# Altium footprint library rev02.PcbLib: 52 footprints (part 2 of 4)
Each footprint in its own frame and in the unit in brackets; x right, y up, seen from the top. Pads: shape width x height; smd on the part's side, far side on the other; paste and mask are expansions set on the pad; w line width, h text height; cw(c..) or ccw(c..) is an arc to the next point about the centre after c.
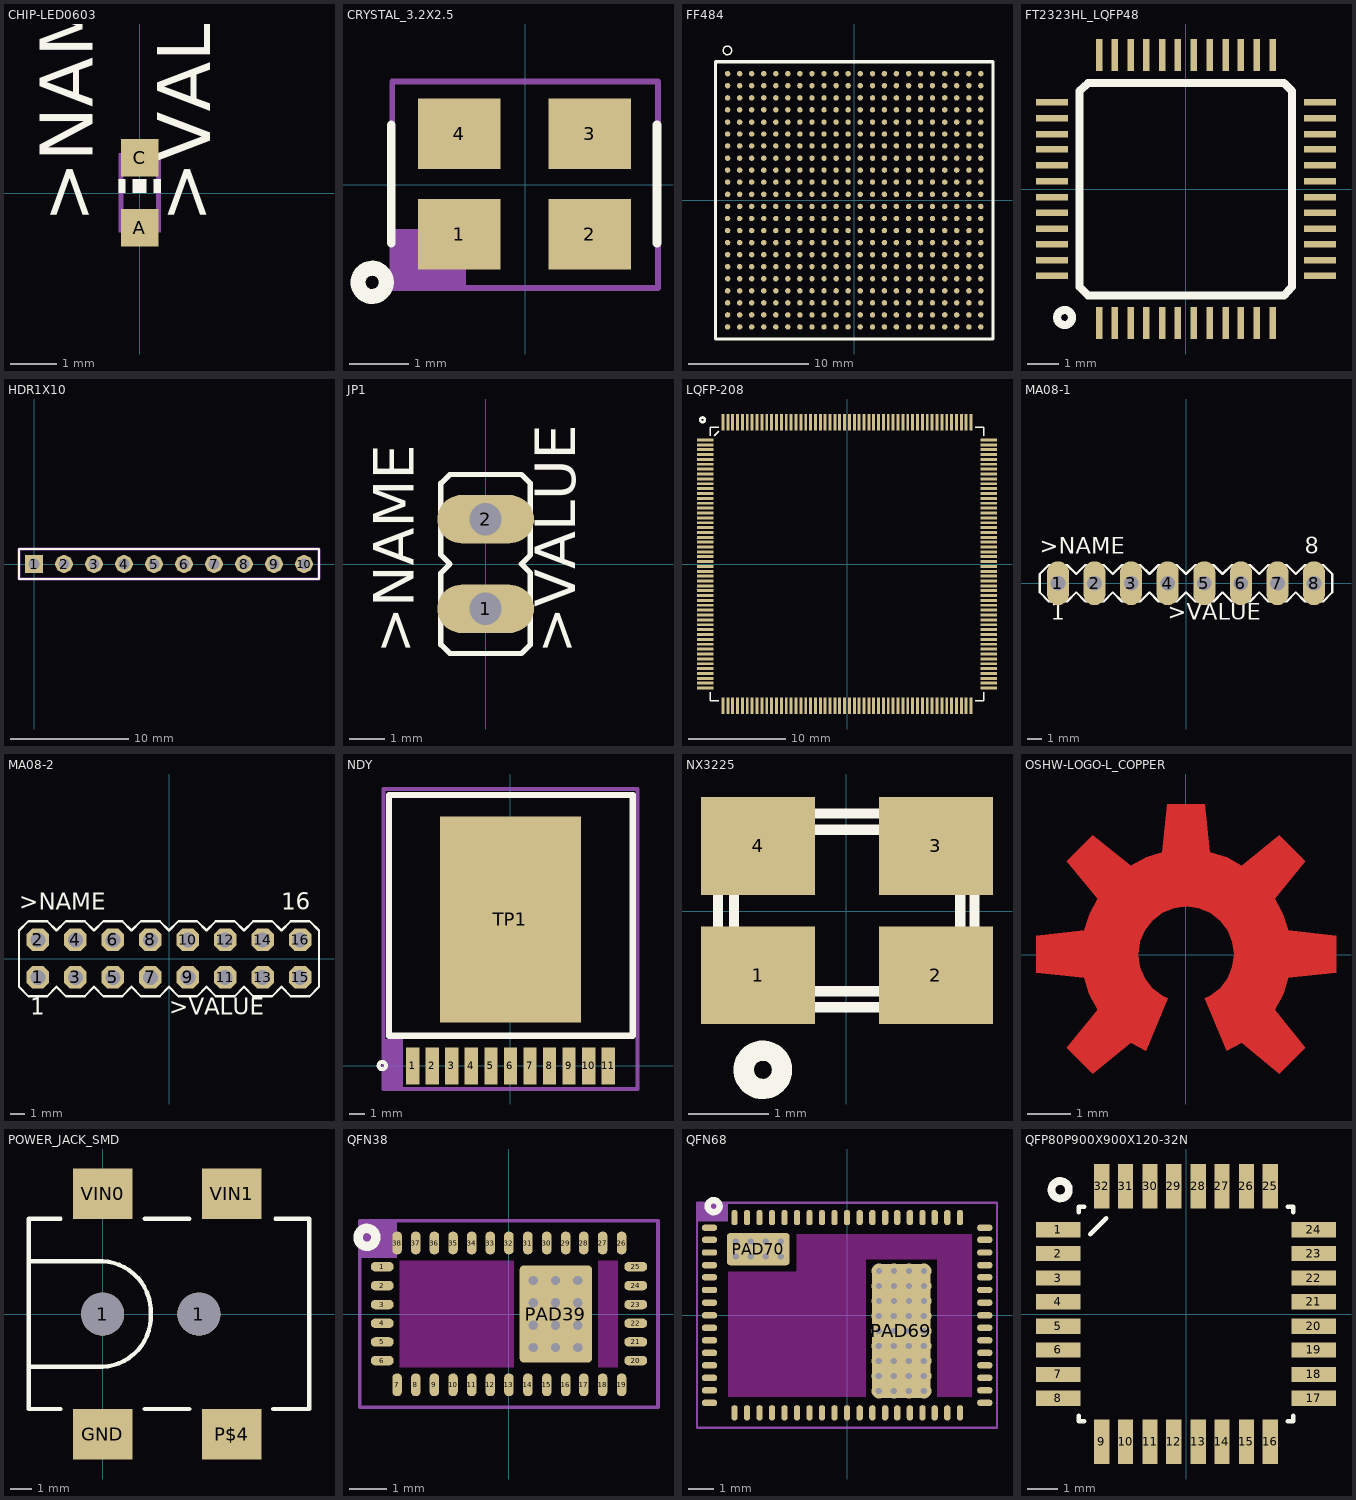
[diagram p1: the footprints below, top view; thin cyan lines are the x and y axes]

## CHIP-LED0603 [mil] "CHIP-LED0603"
pads (2):
  rect 32x32 smd: A(0,-29.53) C(0,30)
Top Overlay:
  rectangle: -17.72,0 -11.81,12
  rectangle: 12,0 18,12
  rectangle: -5.91,0 6,12
  text ">NAME" at -25,-25 h77.5
  text ">VALUE" at 75,-25 h77.5
Mechanical 16:
  rectangle: -17.72,18 18,34
  rectangle: -17.72,-33.46 18,-17.72
  lines w4: -15.75,-17.72 -15.75,18 ; 16,-17.72 16,18

## CRYSTAL_3.2X2.5 [mil] "CRYSTAL_3.2X2.5"
pads (4):
  rect 55x47 smd: 1(-44,-33) 2(43,-33) 3(43,34) 4(-44,34)
Top Overlay:
  circle w10: c-102,-65 r9.43
  lines w5.91: -89.28,-38.91 -89.28,40 ; 88,-38.91 88,40
Mechanical 29:
  rectangle: -88.58,-68.9 -39.37,-29.53
  lines w3.94: -88.58,-68.9 88.58,-68.9 88.58,68.9 -88.58,68.9 -88.58,-68.9
  text ".Designator" at -68.9,0 h39.37

## FF484 [mm] "FF484"
pads (484):
  rrect100% 0.45x0.45 smd: A1(-10.5,10.516) A2(-9.5,10.516) A3(-8.5,10.516) A4(-7.5,10.516) A5(-6.5,10.516) A6(-5.5,10.516) A7(-4.5,10.516) A8(-3.5,10.516) A9(-2.5,10.516) A10(-1.5,10.516) A11(-0.5,10.516) A12(0.508,10.516) A13(1.524,10.516) A14(2.515,10.516) A15(3.505,10.516) A16(4.521,10.516) A17(5.512,10.516) A18(6.502,10.516) A19(7.518,10.516) A20(8.509,10.516) A21(9.525,10.516) A22(10.516,10.516) AA1(-10.5,-9.5) AA2(-9.5,-9.5) AA3(-8.5,-9.5) AA4(-7.5,-9.5) AA5(-6.5,-9.5) AA6(-5.5,-9.5) AA7(-4.5,-9.5) AA8(-3.5,-9.5) AA9(-2.5,-9.5) AA10(-1.5,-9.5) AA11(-0.5,-9.5) AA12(0.508,-9.5) AA13(1.524,-9.5) AA14(2.515,-9.5) AA15(3.505,-9.5) AA16(4.521,-9.5) AA17(5.512,-9.5) AA18(6.502,-9.5) AA19(7.518,-9.5) AA20(8.509,-9.5) AA21(9.525,-9.5) AA22(10.516,-9.5) AB1(-10.5,-10.5) AB2(-9.5,-10.5) AB3(-8.5,-10.5) AB4(-7.5,-10.5) AB5(-6.5,-10.5) AB6(-5.5,-10.5) AB7(-4.5,-10.5) AB8(-3.5,-10.5) AB9(-2.5,-10.5) AB10(-1.5,-10.5) AB11(-0.5,-10.5) AB12(0.508,-10.5) AB13(1.524,-10.5) AB14(2.515,-10.5) AB15(3.505,-10.5) AB16(4.521,-10.5) AB17(5.512,-10.5) AB18(6.502,-10.5) AB19(7.518,-10.5) AB20(8.509,-10.5) AB21(9.525,-10.5) AB22(10.516,-10.5) B1(-10.5,9.525) B2(-9.5,9.525) B3(-8.5,9.525) B4(-7.5,9.525) B5(-6.5,9.525) B6(-5.5,9.525) B7(-4.5,9.525) B8(-3.5,9.525) B9(-2.5,9.525) B10(-1.5,9.525) B11(-0.5,9.525) B12(0.508,9.525) B13(1.524,9.525) B14(2.515,9.525) B15(3.505,9.525) B16(4.521,9.525) B17(5.512,9.525) B18(6.502,9.525) B19(7.518,9.525) B20(8.509,9.525) B21(9.525,9.525) B22(10.516,9.525) C1(-10.5,8.509) C2(-9.5,8.509) C3(-8.5,8.509) C4(-7.5,8.509) C5(-6.5,8.509) C6(-5.5,8.509) C7(-4.5,8.509) C8(-3.5,8.509) C9(-2.5,8.509) C10(-1.5,8.509) C11(-0.5,8.509) C12(0.508,8.509) C13(1.524,8.509) C14(2.515,8.509) C15(3.505,8.509) C16(4.521,8.509) C17(5.512,8.509) C18(6.502,8.509) C19(7.518,8.509) C20(8.509,8.509) C21(9.525,8.509) C22(10.516,8.509) D1(-10.5,7.518) D2(-9.5,7.518) D3(-8.5,7.518) D4(-7.5,7.518) D5(-6.5,7.518) D6(-5.5,7.518) D7(-4.5,7.518) D8(-3.5,7.518) D9(-2.5,7.518) D10(-1.5,7.518) D11(-0.5,7.518) D12(0.508,7.518) D13(1.524,7.518) D14(2.515,7.518) D15(3.505,7.518) D16(4.521,7.518) D17(5.512,7.518) D18(6.502,7.518) D19(7.518,7.518) D20(8.509,7.518) D21(9.525,7.518) D22(10.516,7.518) E1(-10.5,6.502) E2(-9.5,6.502) E3(-8.5,6.502) E4(-7.5,6.502) E5(-6.5,6.502) E6(-5.5,6.502) E7(-4.5,6.502) E8(-3.5,6.502) E9(-2.5,6.502) E10(-1.5,6.502) E11(-0.5,6.502) E12(0.508,6.502) E13(1.524,6.502) E14(2.515,6.502) E15(3.505,6.502) E16(4.521,6.502) E17(5.512,6.502) E18(6.502,6.502) E19(7.518,6.502) E20(8.509,6.502) E21(9.525,6.502) E22(10.516,6.502) F1(-10.5,5.512) F2(-9.5,5.512) F3(-8.5,5.512) F4(-7.5,5.512) F5(-6.5,5.512) F6(-5.5,5.512) F7(-4.5,5.512) F8(-3.5,5.512) F9(-2.5,5.512) F10(-1.5,5.512) F11(-0.5,5.512) F12(0.508,5.512) F13(1.524,5.512) F14(2.515,5.512) F15(3.505,5.512) F16(4.521,5.512) F17(5.512,5.512) F18(6.502,5.512) F19(7.518,5.512) F20(8.509,5.512) F21(9.525,5.512) F22(10.516,5.512) G1(-10.5,4.521) G2(-9.5,4.521) G3(-8.5,4.521) G4(-7.5,4.521) G5(-6.5,4.521) G6(-5.5,4.521) G7(-4.5,4.521) G8(-3.5,4.521) G9(-2.5,4.521) G10(-1.5,4.521) G11(-0.5,4.521) G12(0.508,4.521) G13(1.524,4.521) G14(2.515,4.521) G15(3.505,4.521) G16(4.521,4.521) G17(5.512,4.521) G18(6.502,4.521) G19(7.518,4.521) G20(8.509,4.521) G21(9.525,4.521) G22(10.516,4.521) H1(-10.5,3.505) H2(-9.5,3.505) H3(-8.5,3.505) H4(-7.5,3.505) H5(-6.5,3.505) H6(-5.5,3.505) H7(-4.5,3.505) H8(-3.5,3.505) H9(-2.5,3.505) H10(-1.5,3.505) H11(-0.5,3.505) H12(0.508,3.505) H13(1.524,3.505) H14(2.515,3.505) H15(3.505,3.505) H16(4.521,3.505) H17(5.512,3.505) H18(6.502,3.505) H19(7.518,3.505) H20(8.509,3.505) H21(9.525,3.505) H22(10.516,3.505) J1(-10.5,2.515) J2(-9.5,2.515) J3(-8.5,2.515) J4(-7.5,2.515) J5(-6.5,2.515) J6(-5.5,2.515) J7(-4.5,2.515) J8(-3.5,2.515) J9(-2.5,2.515) J10(-1.5,2.515) J11(-0.5,2.515) J12(0.508,2.515) J13(1.524,2.515) J14(2.515,2.515) J15(3.505,2.515) J16(4.521,2.515) J17(5.512,2.515) J18(6.502,2.515) J19(7.518,2.515) J20(8.509,2.515) J21(9.525,2.515) J22(10.516,2.515) K1(-10.5,1.524) K2(-9.5,1.524) K3(-8.5,1.524) K4(-7.5,1.524) K5(-6.5,1.524) K6(-5.5,1.524) K7(-4.5,1.524) K8(-3.5,1.524) K9(-2.5,1.524) K10(-1.5,1.524) K11(-0.5,1.524) K12(0.508,1.524) K13(1.524,1.524) K14(2.515,1.524) K15(3.505,1.524) K16(4.521,1.524) K17(5.512,1.524) K18(6.502,1.524) K19(7.518,1.524) K20(8.509,1.524) K21(9.525,1.524) K22(10.516,1.524) L1(-10.5,0.508) L2(-9.5,0.508) L3(-8.5,0.508) L4(-7.5,0.508) L5(-6.5,0.508) L6(-5.5,0.508) L7(-4.5,0.508) L8(-3.5,0.508) L9(-2.5,0.508) L10(-1.5,0.508) L11(-0.5,0.508) L12(0.508,0.508) L13(1.524,0.508) L14(2.515,0.508) L15(3.505,0.508) L16(4.521,0.508) L17(5.512,0.508) L18(6.502,0.508) L19(7.518,0.508) L20(8.509,0.508) L21(9.525,0.508) L22(10.516,0.508) M1(-10.5,-0.5) M2(-9.5,-0.5) M3(-8.5,-0.5) M4(-7.5,-0.5) M5(-6.5,-0.5) M6(-5.5,-0.5) M7(-4.5,-0.5) M8(-3.5,-0.5) M9(-2.5,-0.5) M10(-1.5,-0.5) M11(-0.5,-0.5) M12(0.508,-0.5) M13(1.524,-0.5) M14(2.515,-0.5) M15(3.505,-0.5) M16(4.521,-0.5) M17(5.512,-0.5) M18(6.502,-0.5) M19(7.518,-0.5) M20(8.509,-0.5) M21(9.525,-0.5) M22(10.516,-0.5) N1(-10.5,-1.5) N2(-9.5,-1.5) N3(-8.5,-1.5) N4(-7.5,-1.5) N5(-6.5,-1.5) N6(-5.5,-1.5) N7(-4.5,-1.5) N8(-3.5,-1.5) N9(-2.5,-1.5) N10(-1.5,-1.5) N11(-0.5,-1.5) N12(0.508,-1.5) N13(1.524,-1.5) N14(2.515,-1.5) N15(3.505,-1.5) N16(4.521,-1.5) N17(5.512,-1.5) N18(6.502,-1.5) N19(7.518,-1.5) N20(8.509,-1.5) N21(9.525,-1.5) N22(10.516,-1.5) P1(-10.5,-2.5) P2(-9.5,-2.5) P3(-8.5,-2.5) P4(-7.5,-2.5) P5(-6.5,-2.5) P6(-5.5,-2.5) P7(-4.5,-2.5) P8(-3.5,-2.5) P9(-2.5,-2.5) P10(-1.5,-2.5) P11(-0.5,-2.5) P12(0.508,-2.5) P13(1.524,-2.5) P14(2.515,-2.5) P15(3.505,-2.5) P16(4.521,-2.5) P17(5.512,-2.5) P18(6.502,-2.5) P19(7.518,-2.5) P20(8.509,-2.5) P21(9.525,-2.5) P22(10.516,-2.5) R1(-10.5,-3.5) R2(-9.5,-3.5) R3(-8.5,-3.5) R4(-7.5,-3.5) R5(-6.5,-3.5) R6(-5.5,-3.5) R7(-4.5,-3.5) R8(-3.5,-3.5) R9(-2.5,-3.5) R10(-1.5,-3.5) R11(-0.5,-3.5) R12(0.508,-3.5) R13(1.524,-3.5) R14(2.515,-3.5) R15(3.505,-3.5) R16(4.521,-3.5) R17(5.512,-3.5) R18(6.502,-3.5) R19(7.518,-3.5) R20(8.509,-3.5) R21(9.525,-3.5) R22(10.516,-3.5) T1(-10.5,-4.5) T2(-9.5,-4.5) T3(-8.5,-4.5) T4(-7.5,-4.5) T5(-6.5,-4.5) T6(-5.5,-4.5) T7(-4.5,-4.5) T8(-3.5,-4.5) T9(-2.5,-4.5) T10(-1.5,-4.5) T11(-0.5,-4.5) T12(0.508,-4.5) T13(1.524,-4.5) T14(2.515,-4.5) T15(3.505,-4.5) T16(4.521,-4.5) T17(5.512,-4.5) T18(6.502,-4.5) T19(7.518,-4.5) T20(8.509,-4.5) T21(9.525,-4.5) T22(10.516,-4.5) U1(-10.5,-5.5) U2(-9.5,-5.5) U3(-8.5,-5.5) U4(-7.5,-5.5) U5(-6.5,-5.5) U6(-5.5,-5.5) U7(-4.5,-5.5) U8(-3.5,-5.5) U9(-2.5,-5.5) U10(-1.5,-5.5) U11(-0.5,-5.5) U12(0.508,-5.5) U13(1.524,-5.5) U14(2.515,-5.5) U15(3.505,-5.5) U16(4.521,-5.5) U17(5.512,-5.5) U18(6.502,-5.5) U19(7.518,-5.5) U20(8.509,-5.5) U21(9.525,-5.5) U22(10.516,-5.5) V1(-10.5,-6.5) V2(-9.5,-6.5) V3(-8.5,-6.5) V4(-7.5,-6.5) V5(-6.5,-6.5) V6(-5.5,-6.5) V7(-4.5,-6.5) V8(-3.5,-6.5) V9(-2.5,-6.5) V10(-1.5,-6.5) V11(-0.5,-6.5) V12(0.508,-6.5) V13(1.524,-6.5) V14(2.515,-6.5) V15(3.505,-6.5) V16(4.521,-6.5) V17(5.512,-6.5) V18(6.502,-6.5) V19(7.518,-6.5) V20(8.509,-6.5) V21(9.525,-6.5) V22(10.516,-6.5) W1(-10.5,-7.5) W2(-9.5,-7.5) W3(-8.5,-7.5) W4(-7.5,-7.5) W5(-6.5,-7.5) W6(-5.5,-7.5) W7(-4.5,-7.5) W8(-3.5,-7.5) W9(-2.5,-7.5) W10(-1.5,-7.5) W11(-0.5,-7.5) W12(0.508,-7.5) W13(1.524,-7.5) W14(2.515,-7.5) W15(3.505,-7.5) W16(4.521,-7.5) W17(5.512,-7.5) W18(6.502,-7.5) W19(7.518,-7.5) W20(8.509,-7.5) W21(9.525,-7.5) W22(10.516,-7.5) Y1(-10.5,-8.5) Y2(-9.5,-8.5) Y3(-8.5,-8.5) Y4(-7.5,-8.5) Y5(-6.5,-8.5) Y6(-5.5,-8.5) Y7(-4.5,-8.5) Y8(-3.5,-8.5) Y9(-2.5,-8.5) Y10(-1.5,-8.5) Y11(-0.5,-8.5) Y12(0.508,-8.5) Y13(1.524,-8.5) Y14(2.515,-8.5) Y15(3.505,-8.5) Y16(4.521,-8.5) Y17(5.512,-8.5) Y18(6.502,-8.5) Y19(7.518,-8.5) Y20(8.509,-8.5) Y21(9.525,-8.5) Y22(10.516,-8.5)
Top Overlay:
  circle w0.127: c-10.516,12.446 r0.356
  lines w0.254: -11.5,-11.5 11.506,-11.5 11.506,11.506 -11.5,11.506 -11.5,-11.5

## FT2323HL_LQFP48 [mil] "FT2323HL_LQFP48"
pads (48):
  rect 8x40 smd: 1(-108.27,-167.32) 2(-88.58,-167.32) 3(-68.9,-167.32) 4(-49.21,-167.32) 5(-29.53,-167.32) 6(-9.84,-167.32) 7(10,-167.32) 8(30,-167.32) 9(50,-167.32) 10(69,-167.32) 11(89,-167.32) 12(109,-167.32) 25(109,168) 26(89,168) 27(69,168) 28(50,168) 29(30,168) 30(10,168) 31(-9.84,168) 32(-29.53,168) 33(-49.21,168) 34(-68.9,168) 35(-88.58,168) 36(-108.27,168)
  rect 40x8 smd: 13(168,-108.27) 14(168,-88.58) 15(168,-68.9) 16(168,-49.21) 17(168,-29.53) 18(168,-9.84) 19(168,10) 20(168,30) 21(168,50) 22(168,69) 23(168,89) 24(168,109) 37(-167.32,109) 38(-167.32,89) 39(-167.32,69) 40(-167.32,50) 41(-167.32,30) 42(-167.32,10) 43(-167.32,-9.84) 44(-167.32,-29.53) 45(-167.32,-49.21) 46(-167.32,-68.9) 47(-167.32,-88.58) 48(-167.32,-108.27)
Top Overlay:
  circle w10: c-151.57,-160.43 r9.43
  lines w10: -132.87,-122.05 -132.87,123 -122.05,133 123,133 133,123 133,-122.05 123,-132.87 -122.05,-132.87 -132.87,-122.05

## HDR1X10 [mm] "Connector; Header; 10 Position"
pads (10):
  rect 1.5x1.5 hole 0.9: 1(0,0)
  round 1.5 hole 0.9: 2(2.54,0) 3(5.08,0) 4(7.62,0) 5(10.16,0) 6(12.7,0) 7(15.24,0) 8(17.78,0) 9(20.32,0) 10(22.86,0)
Top Overlay:
  lines w0.2: -1.27,-1.27 -1.27,1.27 0.635,1.27 24.13,1.27 24.13,-1.27 -1.27,-1.27
Mechanical 29:
  lines w0.254: -1.25,-1.27 -1.23,-1.25 24.13,-1.25 24.13,1.25 24.11,1.27 -1.25,1.27 -1.25,-1.27
  text ".Designator" at 4.5,-0.75 h1.52

## JP1 [mil] "JP1"
pads (2):
  oval 108x54 hole 36: 1(0,-50) 2(0,50)
Top Overlay:
  lines w6: -50,-90 -40,-100 40,-100 50,-90 50,-10 40,0 50,10 50,90 40,100 -40,100 -50,90 -50,10 -40,0 -50,-10 -50,-90
  text ">VALUE" at 115,-100 h77.5
  text ">NAME" at -65,-100 h77.5
Mechanical 16:
  rectangle: -12,-62 12,-38
  rectangle: -12,38 12,62

## LQFP-208 [mil] "LQFP-208"
pads (208):
  rect 67x12 smd: 1(-574,502) 2(-574,482) 3(-574,463) 4(-574,443) 5(-574,423) 6(-574,404) 7(-574,384) 8(-574,364) 9(-574,344) 10(-574,325) 11(-574,305) 12(-574,285) 13(-574,266) 14(-574,246) 15(-574,226) 16(-574,207) 17(-574,187) 18(-574,167) 19(-574,148) 20(-574,128) 21(-574,108) 22(-574,89) 23(-574,69) 24(-574,49) 25(-574,30) 26(-574,10) 27(-574,-10) 28(-574,-30) 29(-574,-49) 30(-574,-69) 31(-574,-89) 32(-574,-108) 33(-574,-128) 34(-574,-148) 35(-574,-167) 36(-574,-187) 37(-574,-207) 38(-574,-226) 39(-574,-246) 40(-574,-266) 41(-574,-285) 42(-574,-305) 43(-574,-325) 44(-574,-344) 45(-574,-364) 46(-574,-384) 47(-574,-404) 48(-574,-423) 49(-574,-443) 50(-574,-463) 51(-574,-482) 52(-574,-502) 105(574,-502) 106(574,-482) 107(574,-463) 108(574,-443) 109(574,-423) 110(574,-404) 111(574,-384) 112(574,-364) 113(574,-344) 114(574,-325) 115(574,-305) 116(574,-285) 117(574,-266) 118(574,-246) 119(574,-226) 120(574,-207) 121(574,-187) 122(574,-167) 123(574,-148) 124(574,-128) 125(574,-108) 126(574,-89) 127(574,-69) 128(574,-49) 129(574,-30) 130(574,-10) 131(574,10) 132(574,30) 133(574,49) 134(574,69) 135(574,89) 136(574,108) 137(574,128) 138(574,148) 139(574,167) 140(574,187) 141(574,207) 142(574,226) 143(574,246) 144(574,266) 145(574,285) 146(574,305) 147(574,325) 148(574,344) 149(574,364) 150(574,384) 151(574,404) 152(574,423) 153(574,443) 154(574,463) 155(574,482) 156(574,502)
  rect 12x67 smd: 53(-502,-574) 54(-482,-574) 55(-463,-574) 56(-443,-574) 57(-423,-574) 58(-404,-574) 59(-384,-574) 60(-364,-574) 61(-344,-574) 62(-325,-574) 63(-305,-574) 64(-285,-574) 65(-266,-574) 66(-246,-574) 67(-226,-574) 68(-207,-574) 69(-187,-574) 70(-167,-574) 71(-148,-574) 72(-128,-574) 73(-108,-574) 74(-89,-574) 75(-69,-574) 76(-49,-574) 77(-30,-574) 78(-10,-574) 79(10,-574) 80(30,-574) 81(49,-574) 82(69,-574) 83(89,-574) 84(108,-574) 85(128,-574) 86(148,-574) 87(167,-574) 88(187,-574) 89(207,-574) 90(226,-574) 91(246,-574) 92(266,-574) 93(285,-574) 94(305,-574) 95(325,-574) 96(344,-574) 97(364,-574) 98(384,-574) 99(404,-574) 100(423,-574) 101(443,-574) 102(463,-574) 103(482,-574) 104(502,-574) 157(502,574) 158(482,574) 159(463,574) 160(443,574) 161(423,574) 162(404,574) 163(384,574) 164(364,574) 165(344,574) 166(325,574) 167(305,574) 168(285,574) 169(266,574) 170(246,574) 171(226,574) 172(207,574) 173(187,574) 174(167,574) 175(148,574) 176(128,574) 177(108,574) 178(89,574) 179(69,574) 180(49,574) 181(30,574) 182(10,574) 183(-10,574) 184(-30,574) 185(-49,574) 186(-69,574) 187(-89,574) 188(-108,574) 189(-128,574) 190(-148,574) 191(-167,574) 192(-187,574) 193(-207,574) 194(-226,574) 195(-246,574) 196(-266,574) 197(-285,574) 198(-305,574) 199(-325,574) 200(-344,574) 201(-364,574) 202(-384,574) 203(-404,574) 204(-423,574) 205(-443,574) 206(-463,574) 207(-482,574) 208(-502,574)
Top Overlay:
  circle w10: c-585,584 r9.43
  lines w6: -553,-520 -553,-553 -520,-553 ; -553,520 -553,553 -520,553 ; -537,520 -520,537 ; 520,-553 553,-553 553,-520 ; 520,553 553,553 553,520

## MA08-1 [mil] "MA08-1"
pads (8):
  oval 60x120 hole 40: 1(-350,0) 2(-250,0) 3(-150,0) 4(-50,0) 5(50,0) 6(150,0) 7(250,0) 8(350,0)
Top Overlay:
  lines w6: -400,-25 -375,-50 -325,-50 -300,-25 -275,-50 -225,-50 -200,-25 -175,-50 -125,-50 -100,-25 -75,-50 -25,-50 0,-25 25,-50 75,-50 100,-25 125,-50 175,-50 200,-25 225,-50 275,-50 300,-25 325,-50 375,-50 400,-25 400,25 375,50 325,50 300,25 275,50 225,50 200,25 175,50 125,50 100,25 75,50 25,50 0,25 -25,50 -75,50 -100,25 -125,50 -175,50 -200,25 -225,50 -275,50 -300,25 -325,50 -375,50 -400,25 -400,-25
  text ">VALUE" at -50,-115 h77.5
  text "8" at 325,65 h77.5
  text "1" at -370,-115 h77.5
  text ">NAME" at -400,65 h77.5
Mechanical 16:
  rectangle: 340,-10 360,10
  rectangle: 240,-10 260,10
  rectangle: 40,-10 60,10
  rectangle: 140,-10 160,10
  rectangle: -60,-10 -40,10
  rectangle: -160,-10 -140,10
  rectangle: -360,-10 -340,10
  rectangle: -260,-10 -240,10

## MA08-2 [mil] "MA08-2"
pads (16):
  oct 60x60 hole 40: 1(-350,-50) 2(-350,50) 3(-250,-50) 4(-250,50) 5(-150,-50) 6(-150,50) 7(-50,-50) 8(-50,50) 9(50,-50) 10(50,50) 11(150,-50) 12(150,50) 13(250,-50) 14(250,50) 15(350,-50) 16(350,50)
Top Overlay:
  lines w6: -400,-75 -375,-100 -325,-100 -300,-75 -275,-100 -225,-100 -200,-75 -175,-100 -125,-100 -100,-75 -75,-100 -25,-100 0,-75 25,-100 75,-100 100,-75 125,-100 175,-100 200,-75 225,-100 275,-100 300,-75 325,-100 375,-100 400,-75 400,75 375,100 325,100 300,75 275,100 225,100 200,75 175,100 125,100 100,75 75,100 25,100 0,75 -25,100 -75,100 -100,75 -125,100 -175,100 -200,75 -225,100 -275,100 -300,75 -325,100 -375,100 -400,75 -400,-75
  text ">VALUE" at 0,-165 h77.5
  text "16" at 300,115 h77.5
  text ">NAME" at -400,115 h77.5
  text "1" at -370,-165 h77.5
Mechanical 16:
  rectangle: 340,40 360,60
  rectangle: 240,40 260,60
  rectangle: 240,-60 260,-40
  rectangle: 340,-60 360,-40
  rectangle: 140,40 160,60
  rectangle: 40,40 60,60
  rectangle: -60,40 -40,60
  rectangle: -160,40 -140,60
  rectangle: -260,40 -240,60
  rectangle: -360,40 -340,60
  rectangle: 140,-60 160,-40
  rectangle: -60,-60 -40,-40
  rectangle: 40,-60 60,-40
  rectangle: -160,-60 -140,-40
  rectangle: -360,-60 -340,-40
  rectangle: -260,-60 -240,-40

## NDY [mil] "NDY"
pads (12):
  rect 34x95 smd: 1(-250,0) 2(-200,0) 3(-150,0) 4(-100,0) 5(-50,0) 6(0,0) 7(50,0) 8(100,0) 9(150,0) 10(200,0) 11(250,0)
  rect 360x527 smd: TP1(0,375)
Top Overlay:
  circle w10: c-328,1 r9.43
  lines w16: -311.02,77 -311.02,693 313,693 313,77 -311.02,77
Mechanical 29:
  rectangle: -324.8,-59.06 -275.59,68.9
  lines w10: -324.8,-59.06 -324.8,708.66 324.8,708.66 324.8,-59.06 -324.8,-59.06
  text ".Designator" at 19.68,39.37 h60

## NX3225 [mil] "NX3225"
pads (4):
  rect 56x48 smd: 1(-43.31,-31.5) 2(44,-31.5) 3(44,32) 4(-43.31,32)
Top Overlay:
  circle w10: c-41,-78 r9.43
  lines w5: -62.99,-47.24 -62.99,48 63,48 63,-47.24 -62.99,-47.24 ; -55.12,-26.87 ccw(c-42.62,-26.87) -42.62,-39.37 43,-39.37 ccw(c43.25,-26.62) 56,-26.87 56,27 ccw(c43,27) 43,40 -42.62,40 ccw(c-42.37,27.25) -55.12,27 -55.12,-26.87

## OSHW-LOGO-L_COPPER [mm] "OSHW-LOGO-L_COPPER"
Top Layer:
  region: 0.944,-2.234 0.948,-2.232 1.298,-2.045 1.295,-2.041 2.159,-2.758 2.769,-2.155 2.062,-1.278 2.252,-0.923 2.367,-0.543 2.362,-0.541 3.48,-0.426 3.48,0.432 2.368,0.56 2.251,0.945 2.062,1.298 2.057,1.295 2.769,2.159 2.159,2.769 1.298,2.062 0.945,2.251 0.56,2.368 0.559,2.362 0.432,3.48 -0.426,3.48 -0.543,2.367 -0.923,2.252 -1.278,2.062 -1.275,2.057 -2.155,2.769 -2.758,2.159 -2.045,1.298 -2.233,0.947 -2.35,0.56 -2.345,0.559 -3.474,0.432 -3.474,-0.426 -2.35,-0.543 -2.234,-0.925 -2.045,-1.278 -2.041,-1.275 -2.758,-2.155 -2.155,-2.758 -1.278,-2.045 -0.925,-2.234 -0.921,-2.223 -0.419,-1.011 -0.552,-0.955 -0.78,-0.78 -0.955,-0.552 -1.066,-0.286 -1.103,0 -1.103,0.004 -1.065,0.292 -0.955,0.559 -0.778,0.789 -0.548,0.966 -0.281,1.076 0.007,1.114 0.294,1.076 0.562,0.966 0.791,0.789 0.968,0.559 1.079,0.292 1.116,0.004 1.079,-0.283 0.968,-0.551 0.791,-0.78 0.562,-0.957 0.432,-1.011

## POWER_JACK_SMD [mil] "POWER_JACK_SMD"
pads (6):
  round 80 hole 80: 1(0,0) 1(180,0)
  rect 111x95 smd: GND(0,-224.41) P$4(241,-224.41) VIN0(0,225) VIN1(241,225)
Top Overlay:
  lines w8: -78.74,-177.17 -137.8,-177.17 -137.8,-98.43 ; -78.74,178 -137.8,178 -137.8,99 ; 79,-177.17 162,-177.17 ; 79,178 162,178 ; 319,-177.17 386,-177.17 386,178 323,178 ; -137.8,-98.43 -137.8,99 ; -137.8,-98.43 0,-98.43 ccw(c-4.21,-4.21) 90,0 ccw(c-4.5,4.5) 0,99 -137.8,99

## QFN38 [mil] "QFN38_4X7X1.85"
height 39.37
pads (39):
  rrect90% 24x10 smd: 1(-133.86,50) 2(-133.86,30) 3(-133.86,10) 4(-133.86,-9.84) 5(-133.86,-29.53) 6(-133.86,-49.21) 20(134,-49.21) 21(134,-29.53) 22(134,-9.84) 23(134,10) 24(134,30) 25(134,50)
  rrect90% 10x24 smd: 7(-118.11,-74.8) 8(-98.43,-74.8) 9(-78.74,-74.8) 10(-59.06,-74.8) 11(-39.37,-74.8) 12(-19.68,-74.8) 13(0,-74.8) 14(20,-74.8) 15(40,-74.8) 16(60,-74.8) 17(79,-74.8) 18(99,-74.8) 19(119,-74.8) 26(119,75) 27(99,75) 28(79,75) 29(60,75) 30(40,75) 31(20,75) 32(0,75) 33(-19.68,75) 34(-39.37,75) 35(-59.06,75) 36(-78.74,75) 37(-98.43,75) 38(-118.11,75)
  rrect10% 76.38x102.36 smd paste-196.85 mask+0: PAD39(49.61,0)
via 25.59,-11.81 diameter 23.62 hole 9.84
via 49.21,-11.81 diameter 23.62 hole 9.84
via 72.83,-11.81 diameter 23.62 hole 9.84
via 72.83,-35.43 diameter 23.62 hole 9.84
via 49.21,-35.43 diameter 23.62 hole 9.84
via 25.59,-35.43 diameter 23.62 hole 9.84
via 25.59,11.81 diameter 23.62 hole 9.84
via 49.21,11.81 diameter 23.62 hole 9.84
via 72.83,11.81 diameter 23.62 hole 9.84
via 72.83,35.43 diameter 23.62 hole 9.84
via 49.21,35.43 diameter 23.62 hole 9.84
via 25.59,35.43 diameter 23.62 hole 9.84
Top Layer keep-out:
  region: 4.92,56.1 4.92,-56.1 -115.16,-56.1 -115.16,56.1
  region: 94.49,56.1 94.49,-56.1 115.16,-56.1 115.16,56.1
Top Overlay:
  circle w10: c-150,81 r9.43
Top Paste:
  region: 30.51,37.4 69.88,37.4 69.88,5.91 30.51,5.91
  region: 30.51,-5.91 69.88,-5.91 69.88,-37.4 30.51,-37.4
Top Solder:
  region: 30.51,-5.91 69.88,-5.91 69.88,-37.4 30.51,-37.4
  region: 30.51,37.4 69.88,37.4 69.88,5.91 30.51,5.91
Mechanical 29:
  rectangle: -157.48,59.06 -118.11,98.43
  lines w3.94: -157.48,-98.43 157.48,-98.43 157.48,98.43 -157.48,98.43 -157.48,-98.43
  text ".Designator" at -137.8,-29.53 h60

## QFN68 [mil] "QFN68_8X11X1.85"
pads (70):
  rrect90% 24x10 smd: 1(-216.54,138) 2(-216.54,119) 3(-216.54,99) 4(-216.54,79) 5(-216.54,60) 6(-216.54,40) 7(-216.54,20) 8(-216.54,0) 9(-216.54,-19.68) 10(-216.54,-39.37) 11(-216.54,-59.06) 12(-216.54,-78.74) 13(-216.54,-98.43) 14(-216.54,-118.11) 15(-216.54,-137.8) 35(217,-137.8) 36(217,-118.11) 37(217,-98.43) 38(217,-78.74) 39(217,-59.06) 40(217,-39.37) 41(217,-19.68) 42(217,0) 43(217,20) 44(217,40) 45(217,60) 46(217,79) 47(217,99) 48(217,119) 49(217,138)
  rrect90% 10x24 smd: 16(-177.17,-153.54) 17(-157.48,-153.54) 18(-137.8,-153.54) 19(-118.11,-153.54) 20(-98.43,-153.54) 21(-78.74,-153.54) 22(-59.06,-153.54) 23(-39.37,-153.54) 24(-19.68,-153.54) 25(0,-153.54) 26(20,-153.54) 27(40,-153.54) 28(60,-153.54) 29(79,-153.54) 30(99,-153.54) 31(119,-153.54) 32(138,-153.54) 33(158,-153.54) 34(178,-153.54) 50(178,154) 51(158,154) 52(138,154) 53(119,154) 54(99,154) 55(79,154) 56(60,154) 57(40,154) 58(20,154) 59(0,154) 60(-19.68,154) 61(-39.37,154) 62(-59.06,154) 63(-78.74,154) 64(-98.43,154) 65(-118.11,154) 66(-137.8,154) 67(-157.48,154) 68(-177.17,154)
  rrect20% 92.52x210.63 smd paste-196.85 mask+0: PAD69(85.63,-24.61)
  rrect20% 98.43x51.18 smd paste-196.85 mask+0: PAD70(-139.76,104.33)
via 97.44,22.64 diameter 23.62 hole 9.84
via 97.44,46.26 diameter 23.62 hole 9.84
via 97.44,69.88 diameter 23.62 hole 9.84
via 121.06,69.88 diameter 23.62 hole 9.84
via 121.06,46.26 diameter 23.62 hole 9.84
via 121.06,22.64 diameter 23.62 hole 9.84
via 73.82,22.64 diameter 23.62 hole 9.84
via 73.82,46.26 diameter 23.62 hole 9.84
via 73.82,69.88 diameter 23.62 hole 9.84
via 50.2,69.88 diameter 23.62 hole 9.84
via 50.2,46.26 diameter 23.62 hole 9.84
via 50.2,22.64 diameter 23.62 hole 9.84
via -175.2,92.52 diameter 23.62 hole 9.84
via -175.2,116.14 diameter 23.62 hole 9.84
via -151.57,116.14 diameter 23.62 hole 9.84
via -151.57,92.52 diameter 23.62 hole 9.84
via -104.33,92.52 diameter 23.62 hole 9.84
via -104.33,116.14 diameter 23.62 hole 9.84
via -127.95,116.14 diameter 23.62 hole 9.84
via -127.95,92.52 diameter 23.62 hole 9.84
via 50.2,-48.23 diameter 23.62 hole 9.84
via 50.2,-24.61 diameter 23.62 hole 9.84
via 50.2,-0.98 diameter 23.62 hole 9.84
via 73.82,-0.98 diameter 23.62 hole 9.84
via 73.82,-24.61 diameter 23.62 hole 9.84
via 73.82,-48.23 diameter 23.62 hole 9.84
via 121.06,-48.23 diameter 23.62 hole 9.84
via 121.06,-24.61 diameter 23.62 hole 9.84
via 121.06,-0.98 diameter 23.62 hole 9.84
via 97.44,-0.98 diameter 23.62 hole 9.84
via 97.44,-24.61 diameter 23.62 hole 9.84
via 97.44,-48.23 diameter 23.62 hole 9.84
via 50.2,-119.09 diameter 23.62 hole 9.84
via 50.2,-95.47 diameter 23.62 hole 9.84
via 50.2,-71.85 diameter 23.62 hole 9.84
via 73.82,-71.85 diameter 23.62 hole 9.84
via 73.82,-95.47 diameter 23.62 hole 9.84
via 73.82,-119.09 diameter 23.62 hole 9.84
via 121.06,-119.09 diameter 23.62 hole 9.84
via 121.06,-95.47 diameter 23.62 hole 9.84
via 121.06,-71.85 diameter 23.62 hole 9.84
via 97.44,-71.85 diameter 23.62 hole 9.84
via 97.44,-95.47 diameter 23.62 hole 9.84
via 97.44,-119.09 diameter 23.62 hole 9.84
Top Layer keep-out:
  region: -78.74,127.95 196.85,127.95 196.85,-127.95 141.73,-127.95 141.73,88.58 29.53,88.58 29.53,-127.95 -187.01,-127.95 -187.01,68.9 -78.74,68.9
Top Overlay:
  circle w10: c-210,172 r9.43
Top Paste:
  rectangle: 62.01,-101.57 108.27,-38.39
  rectangle: 62.01,-10.04 108.27,53.15
  rectangle: -165.35,89.57 -114.17,119.09
Mechanical 29:
  rectangle: -236.22,147.64 -187.01,177.17
  lines w3.94: -236.22,-177.17 -236.22,177.17 236.22,177.17 236.22,-177.17 -236.22,-177.17
  text ".Designator" at -177.17,-19.68 h60

## QFP80P900X900X120-32N [mil] "QFP80P900X900X120-32N"
pads (32):
  rect 58x20 smd: 1(-167,110) 2(-167,79) 3(-167,47) 4(-167,16) 5(-167,-16) 6(-167,-47) 7(-167,-79) 8(-167,-110) 17(167,-110) 18(167,-79) 19(167,-47) 20(167,-16) 21(167,16) 22(167,47) 23(167,79) 24(167,110)
  rect 20x58 smd: 9(-110,-167) 10(-79,-167) 11(-47,-167) 12(-16,-167) 13(16,-167) 14(47,-167) 15(79,-167) 16(110,-167) 25(110,167) 26(79,167) 27(47,167) 28(16,167) 29(-16,167) 30(-47,167) 31(-79,167) 32(-110,167)
Top Overlay:
  lines w6: -140,-133 -140,-140 -133,-140 ; -140,133 -140,140 -133,140 ; -125,104 -104,125 ; 133,-140 140,-140 140,-133 ; 133,140 140,140 140,133
  lines w10: -153.09,164.11 ccw(c-164.37,162.4) -152.98,161.72